# EAGLE library part MQ-4 (library 1AA_Stofer)
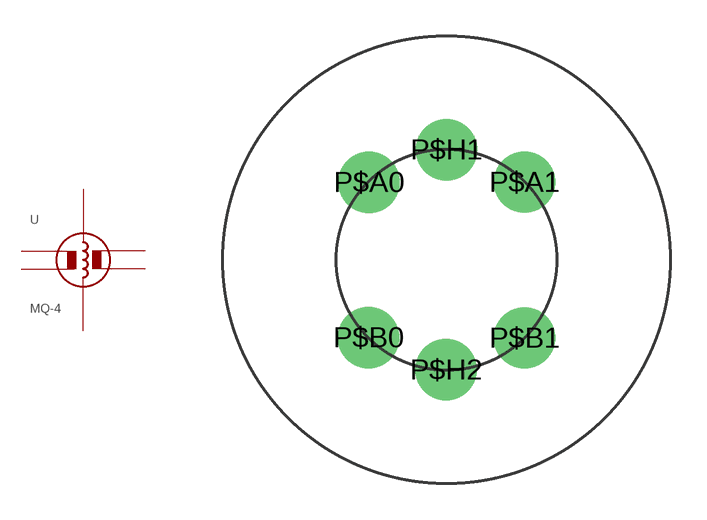
[diagram p12: symbol with the pads of GAS_SENSOR_PKG_A; footprint GAS_SENSOR_PKG_A]

Designator prefix -

## MQ-4  [GAS_SENSOR_PKG_A]
P$A0  P$A0
P$A1  P$A1
P$B0  P$B0
P$B1  P$B1
P$H1  P$H1  pwr
P$H2  P$H2  pwr

## Footprint GAS_SENSOR_PKG_A (pad centres in mm)
drill 1.2 pad 2.54: P$A0 -3.205,3.21; P$A1 3.228,3.214; P$B0 -3.225,-3.219; P$B1 3.231,-3.235; P$H1 0,4.557; P$H2 -0.017,-4.553